# Altium footprint library OltestLib_popadjuk.PcbLib: 113 footprints (part 4 of 8)
Each footprint in its own frame and in the unit in brackets; x right, y up, seen from the top. Pads: shape width x height; smd on the part's side, far side on the other; paste and mask are expansions set on the pad; w line width, h text height; cw(c..) or ccw(c..) is an arc to the next point about the centre after c.
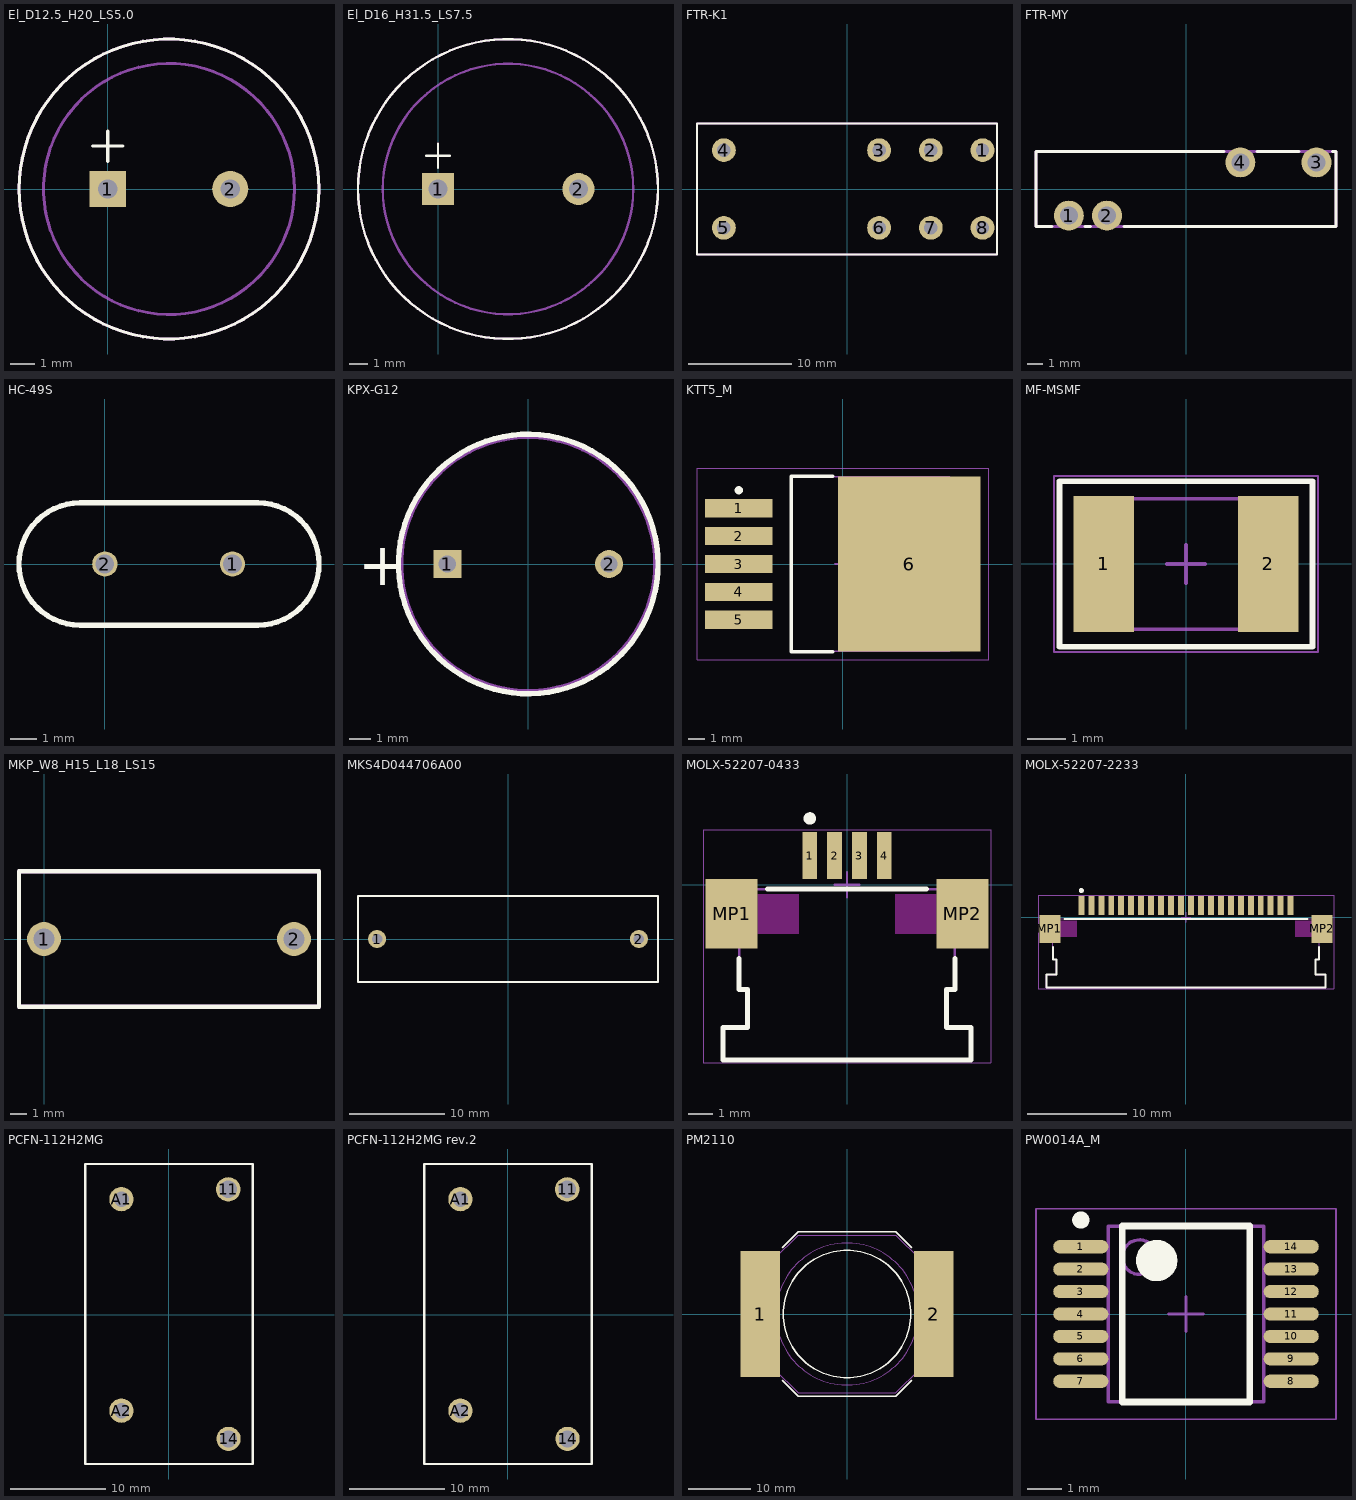
[diagram p3: the footprints below, top view; thin cyan lines are the x and y axes]

## El_D12.5_H20_LS5.0 [mm]
pads (2):
  rect 1.5x1.5 hole 0.8: 1(0,0)
  round 1.5 hole 0.8: 2(5.08,0)
Top Overlay:
  circle w0.127: c2.54,0 r6.223
  lines w0.127: -0.635,1.778 0.635,1.778 ; 0,1.143 0,2.413
Mechanical 13:
  circle w0.127: c2.54,0 r6.223
  circle w0.127: c2.54,0 r5.207
  circle w0.127: c2.54,0 r6.223
3D body: height 2.03, standoff 0, extent -3.682,-6.222 8.762,6.222
3D body: height 16, standoff 4.06, extent -3.682,-6.222 8.762,6.222
3D body: height 4.06, standoff 2.03, extent -2.666,-5.206 7.746,5.206

## El_D16_H31.5_LS7.5 [mm]
pads (2):
  rect 1.7x1.7 hole 1: 1(0,0)
  round 1.7 hole 1: 2(7.493,0)
Top Overlay:
  circle w0.127: c3.734,0 r8.001
  lines w0.127: -0.635,1.778 0.635,1.778 ; 0,1.143 0,2.413
Mechanical 13:
  circle w0.127: c3.734,0 r8.001
  circle w0.127: c3.734,0 r6.68
  circle w0.127: c3.734,0 r8.001
3D body: height 2.03, standoff 1.02, extent -2.946,-6.68 10.413,6.68
3D body: height 1.02, standoff 0, extent -4.267,-8 11.734,8
3D body: height 31.5, standoff 2.03, extent -4.267,-8 11.734,8

## FTR-K1 [mm] "FTR-K1"
height 15.697
pads (8):
  round 2.3 hole 1.3: 1(13.1,3.75) 2(8.1,3.75) 3(3.1,3.75) 4(-11.9,3.75) 5(-11.9,-3.75) 6(3.1,-3.75) 7(8.1,-3.75) 8(13.1,-3.75)
Top Overlay:
  lines w0.203: -14.5,-6.35 14.5,-6.35 14.5,6.35 -14.5,6.35 -14.5,-6.35
Mechanical 13:
  lines w0.203: -14.5,-6.35 -14.5,6.35 14.5,6.35 14.5,-6.35 -14.5,-6.35
3D body: height 15.7, standoff 0, extent -14.499,-6.349 14.499,6.349

## FTR-MY [mm] "FTR-MY"
height 11.989
pads (4):
  round 2 hole 1.2: 1(-7.81,-1.775) 2(-5.27,-1.775) 3(8.7,1.775) 4(3.62,1.775)
Top Overlay:
  lines w0.203: -8.95,-2.5 -10,-2.5 -10,2.5 2.525,2.5 ; -6.725,-2.5 -6.375,-2.5 ; -4.125,-2.5 10,-2.5 10,2.5 9.775,2.5 ; 4.75,2.5 7.525,2.5
Mechanical 13:
  lines w0.203: -10,-2.5 10,-2.5 10,2.5 -10,2.5 -10,-2.5
3D body: height 11.99, standoff 0, extent -9.999,-2.499 9.999,2.499

## HC-49S [mil]
pads (2):
  round 38 / inner round 0 / far side round 57 hole 28 mask+3: 1(192,0) 2(0,0)
Top Overlay:
  lines w8: -37,-92 cw(c-37,0) -37,92 230,92 cw(c230,0) 230,-92 -37,-92
3D body: height 0, standoff 0, extent -41.01,-88.55 -41,-88.55
3D body "HC49S.stp": height 150.61, standoff -117.11, extent -127.42,-92.07 319.43,91

## KPX-G12 [mil]
height 295.28
pads (2):
  rect 52x52 hole 32: 1(-149.61,0)
  round 52 hole 32: 2(149.61,0)
Top Overlay:
  circle w10: c0,0 r240.16
  text "+" at -314.96,-39.37 h78.74
Mechanical 13:
  circle w10: c0,0 r236.22
3D body: height 295.28, standoff 0, extent -236.2,-236.2 236.2,236.2

## KTT5_M [mm] "D2-PAK, 6-Leads, Body 8.9x10.2mm, Pitch 1.7mm, Lead Span 15.2mm, IPC Low Density"
height 4.83
pads (6):
  rect 4.1x1.1 smd: 1(-6.35,3.4) 2(-6.35,1.7) 3(-6.35,0) 4(-6.35,-1.7) 5(-6.35,-3.4)
  rect 8.7x10.7 smd: 6(4.05,0)
Top Overlay:
  circle w0.25: c-6.35,4.5 r0.125
  lines w0.2: -0.6,-5.35 -3.15,-5.35 -3.15,5.35 -0.6,5.35
Mechanical 13:
  lines w0.1: -3.15,-5.325 6.5,-5.325 6.5,5.325 -3.15,5.325 -3.15,-5.325
Mechanical 15:
  lines w0.05: -8.9,-5.85 8.9,-5.85 8.9,5.85 -8.9,5.85 -8.9,-5.85
  lines w0.1: -0.5,0 0.5,0 ; 0,-0.5 0,0.5
3D body: height 4.83, standoff 0, extent -3.15,-5.325 6.5,5.325

## MF-MSMF [mm] "2-Leads, Body 4,55x3,24mm, IPC Low Density"
height 1
pads (2):
  rect 1.57x3.54 smd: 1(-2.145,0) 2(2.145,0)
Top Overlay:
  lines w0.152: -3.302,-2.159 3.302,-2.159 3.302,2.159 -3.302,2.159 -3.302,-2.159
Mechanical 13:
  lines w0.1: -2.365,-1.705 2.365,-1.705 2.365,1.705 -2.365,1.705 -2.365,-1.705
Mechanical 15:
  lines w0.05: -3.45,-2.3 3.45,-2.3 3.45,2.3 -3.45,2.3 -3.45,-2.3
  lines w0.1: -0.5,0 0.5,0 ; 0,-0.5 0,0.5
3D body "INDC4632X10M.step": height 1, standoff 0, extent -2.365,-1.705 2.365,1.705

## MKP_W8_H15_L18_LS15 [mil]
pads (2):
  round 80 hole 50: 1(0,0) 2(590,0)
Top Overlay:
  lines w10: -59,-160 649,-160 649,160 -59,160 -59,0 -59,-160
Mechanical 13:
  lines w10: -59,-160 649,-160 649,160 -59,160 -59,0 -59,-160
3D body: height 590, standoff 0, extent -64,-165 654,165

## MKS4D044706A00 [mm]
height 19
pads (2):
  round 1.9 hole 1.1: 1(-13.75,0) 2(13.75,0)
Top Overlay:
  lines w0.203: -15.75,-4.5 -15.75,4.5 15.75,4.5 15.75,-4.5 -15.75,-4.5
Mechanical 13:
  lines w0.152: -15.75,-4.5 -15.75,4.5 15.75,4.5 15.75,-4.5 -15.75,-4.5
3D body: height 19, standoff 0, extent -15.749,-4.499 15.749,4.499

## MOLX-52207-0433 [mm] "FPC Connector, 4-Leads, Right Angle, Pitch 1.0 mm, Mated Height 2.7 mm, SMT"
height 2.712
pads (6):
  rect 0.6x1.9 smd: 1(-1.5,1.175) 2(-0.5,1.175) 3(0.5,1.175) 4(1.5,1.175)
  rect 2.1x2.8 smd: MP1(-4.65,-1.175) MP2(4.65,-1.175)
Top Overlay:
  circle w0.25: c-1.5,2.675 r0.125
  lines w0.2: -4.35,-2.975 -4.35,-4.225 ; -3.2,-0.175 3.2,-0.175 ; 4.35,-2.975 4.35,-4.225 ; -4.35,-4.225 -4.35,-4.225 ; -4.35,-4.225 -4.013,-4.225 -4.012,-4.225 -4.012,-5.765 -5,-5.765 -5,-7.075 5,-7.075 5,-5.765 4.012,-5.765 4.012,-4.225 4.013,-4.225 4.35,-4.225 ; 4.35,-4.225 4.35,-4.225
Keep-Out Layer:
  region: 3.6,-0.375 1.95,-0.375 1.95,-1.975 3.6,-1.975
  region: -3.6,-0.375 -1.95,-0.375 -1.95,-1.975 -3.6,-1.975
Mechanical 13:
  lines w0.1: -5.15,-2.175 -4.35,-2.175 -4.35,-4.225 -4.012,-4.225 -4.012,-5.765 -5,-5.765 -5,-7.075 5,-7.075 5,-5.765 4.012,-5.765 4.012,-4.225 4.35,-4.225 4.35,-2.175 5.15,-2.175 5.15,-0.175 -5.15,-0.175 -5.15,-2.175
Mechanical 15:
  lines w0.05: -5.8,-7.175 5.8,-7.175 5.8,2.225 -5.8,2.225 -5.8,-7.175
  lines w0.1: -0.5,0 0.5,0 ; 0,-0.5 0,0.5
3D body "522070433.stp": height 2.71, standoff 0.01, extent -5.15,-7.075 5.15,1.825

## MOLX-52207-2233 [mm] "FPC Connector, 22-Leads, Right Angle, Pitch 1.0 mm, Mated Height 2.7 mm, SMT"
height 2.712
pads (24):
  rect 0.6x1.9 smd: 1(-10.5,1.175) 2(-9.5,1.175) 3(-8.5,1.175) 4(-7.5,1.175) 5(-6.5,1.175) 6(-5.5,1.175) 7(-4.5,1.175) 8(-3.5,1.175) 9(-2.5,1.175) 10(-1.5,1.175) 11(-0.5,1.175) 12(0.5,1.175) 13(1.5,1.175) 14(2.5,1.175) 15(3.5,1.175) 16(4.5,1.175) 17(5.5,1.175) 18(6.5,1.175) 19(7.5,1.175) 20(8.5,1.175) 21(9.5,1.175) 22(10.5,1.175)
  rect 2.1x2.8 smd: MP1(-13.65,-1.175) MP2(13.65,-1.175)
Top Overlay:
  circle w0.25: c-10.5,2.675 r0.125
  lines w0.2: -13.35,-2.975 -13.35,-4.225 -13.013,-4.225 -13.012,-5.765 -14,-5.765 -14,-7.075 14,-7.075 14,-5.765 13.012,-5.765 13.012,-4.225 13.35,-4.225 13.35,-2.975 ; -12.2,-0.175 12.2,-0.175
Keep-Out Layer:
  region: -12.6,-0.375 -10.95,-0.375 -10.95,-1.975 -12.6,-1.975
  region: 12.6,-0.375 10.95,-0.375 10.95,-1.975 12.6,-1.975
Mechanical 13:
  lines w0.1: -14.15,-2.175 -14.15,-0.175 14.15,-0.175 14.15,-2.175 13.35,-2.175 13.35,-4.225 13.012,-4.225 13.012,-5.765 14,-5.765 14,-7.075 -14,-7.075 -14,-5.765 -13.012,-5.765 -13.012,-4.225 -13.35,-4.225 -13.35,-2.175 -14.15,-2.175
Mechanical 15:
  lines w0.05: -14.8,-7.175 -14.8,2.225 14.8,2.225 14.8,-7.175 -14.8,-7.175
  lines w0.1: -0.5,0 0.5,0 ; 0,-0.5 0,0.5
3D body "522072233.stp": height 2.71, standoff 0.01, extent -14.15,-7.075 14.15,1.825

## PCFN-112H2MG [mm]
height 26.5
pads (4):
  round 2.54 hole 1.8: 11(6.225,13.125) 14(6.25,-12.975)
  round 2.54 hole 1.6: A1(-4.95,12.1) A2(-4.95,-10.025)
Top Overlay:
  lines w0.254: -8.75,-15.575 -8.75,15.775 8.8,15.775 8.8,-15.6 -8.725,-15.6
3D body: height 26.5, standoff 0, extent -7.975,-14.925 8,15.025

## PCFN-112H2MG rev.2 [mm]
height 26.5
pads (4):
  round 2.54 hole 1.8: 11(6.225,13.125) 14(6.25,-12.975)
  round 2.54 hole 1.6: A1(-4.95,12.1) A2(-4.95,-10.025)
Top Overlay:
  lines w0.254: -8.75,-15.575 -8.75,15.775 8.8,15.775 8.8,-15.6 -8.725,-15.6
3D body: height 26.5, standoff 0, extent -7.975,-14.925 8,15.025

## PM2110 [mm] "PM2110"
height 14.478
pads (2):
  rect 6.35x20.32 smd: 1(-13.97,0) 2(13.97,0)
Top Overlay:
  circle w0.203: c0,0 r10.252
  lines w0.203: -10.414,-10.668 -7.874,-13.208 7.874,-13.208 10.414,-10.668 ; -10.414,10.668 -7.874,13.208 7.874,13.208 10.414,10.668
Mechanical 13:
  circle w0.152: c0,0 r11.416
  lines w0.152: -15.24,-8.89 -15.24,8.89 -11.684,8.89 -7.874,12.7 7.874,12.7 11.684,8.89 15.24,8.89 15.24,-8.89 11.684,-8.89 7.874,-12.7 -7.874,-12.7 -11.684,-8.89 -15.24,-8.89
3D body: height 14.48, standoff 2.54, extent -11.415,-11.415 11.415,11.415
3D body: height 2.54, standoff 0, extent -15.241,-12.701 15.241,12.701

## PW0014A_M [mil] "SOP, 14-Leads, Body 5.1x4.5mm, Pitch 0.65mm, IPC Low Density"
height 47.24
pads (14):
  oval 63x15 smd: 1(-120.08,76.77) 2(-120.08,51.18) 3(-120.08,25.59) 4(-120.08,0) 5(-120.08,-25.59) 6(-120.08,-51.18) 7(-120.08,-76.77) 8(120.08,-76.77) 9(120.08,-51.18) 10(120.08,-25.59) 11(120.08,0) 12(120.08,25.59) 13(120.08,51.18) 14(120.08,76.77)
Top Overlay:
  circle w23.62: c-33.46,61.02 r11.81
  circle w9.84: c-120.08,107.28 r4.92
  lines w7.87: -72.83,-100.39 72.83,-100.39 72.83,100.39 -72.83,100.39 -72.83,-100.39
Mechanical 13:
  circle w3.94: c-53.15,64.96 r19.68
  lines w3.94: -88.58,-100.39 88.58,-100.39 88.58,100.39 -88.58,100.39 -88.58,-100.39
Mechanical 15:
  lines w1.97: -171.26,-120.08 171.26,-120.08 171.26,120.08 -171.26,120.08 -171.26,-120.08
  lines w3.94: -19.68,0 19.69,0 ; 0,-19.68 0,19.69
3D body "PW0014AakaMTC14.stp": height 47.24, standoff 0.02, extent -126.38,-98.42 126.39,98.43